# EAGLE library part MAXIM_MAX406CPA (library System)
OP AMP
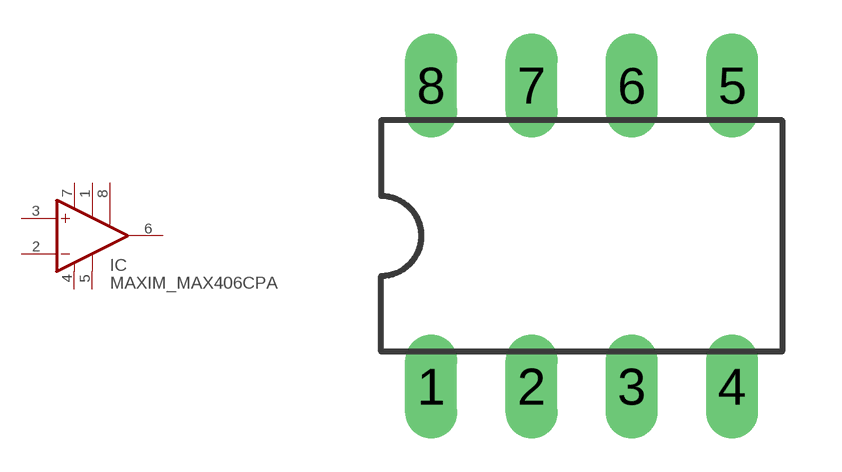
[diagram p3: symbol with the pads of MAXIM_DIL08; footprint MAXIM_DIL08]

Designator prefix IC

## MAXIM_MAX406CPA (OC_FARNELL: unknown; OC_NEWARK: unknown)  [MAXIM_DIL08]
1  OFF1  pas
2  -IN  in
3  +IN  in
4  V-  pwr
5  OFF2  pas
6  OUT  out
7  V+  pwr
8  BW  pas

## Footprint MAXIM_DIL08 (pad centres in mm)
Dual In Line Package
drill 0.813 long: 1 -3.81,-3.81; 2 -1.27,-3.81; 3 1.27,-3.81; 4 3.81,-3.81; 5 3.81,3.81; 6 1.27,3.81; 7 -1.27,3.81; 8 -3.81,3.81